# EAGLE library part 734-510 (library con-wago_3.81mm)
Serie 734, Federleiste mit geraden Einlötstiften / Series 734, Female connector with straight solder pins Polzahl / Pole No.: 10 Bemessungsspannung / Rated Voltage: 160 V Nennstrom / Nominal Current: 10 A Lötstiftlänge: / Solder Pin Length: 3.8 mm Farbe / Color: orange / orange Stand: 01.01.2012. Die jeweils aktuellen Daten zu diesem Artikel finden Sie in unserem Produktkatalog, den Sie unter www.wago.com einsehen können. As of: 01/01/2012. Please find the newest data for this article in our product catalogue, which can be viewed under www.wago.com.
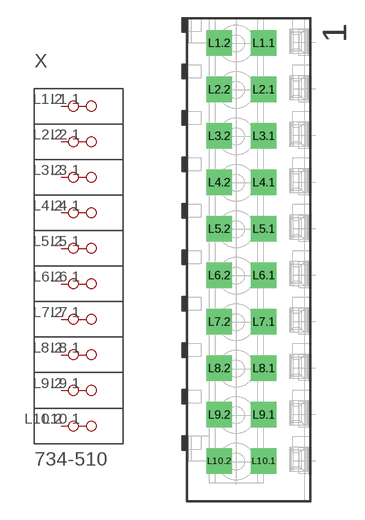
[diagram p43: symbol with the pads of P-734-510; footprint P-734-510]

Designator prefix X

## 734-510  [P-734-510]
L1.1  P1.1
L1.2  P1.2
L2.1  P2.1
L2.2  P2.2
L3.1  P3.1
L3.2  P3.2
L4.1  P4.1
L4.2  P4.2
L5.1  P5.1
L5.2  P5.2
L6.1  P6.1
L6.2  P6.2
L7.1  P7.1
L7.2  P7.2
L8.1  P8.1
L8.2  P8.2
L9.1  P9.1
L9.2  P9.2
L10.1  P10.1
L10.2  P10.2

## Footprint P-734-510 (pad centres in mm)
drill 1.4 square: L1.1 1.189,17.79; L1.2 -2.461,17.79; L2.1 1.189,13.98; L2.2 -2.461,13.98; L3.1 1.189,10.17; L3.2 -2.461,10.17; L4.1 1.189,6.36; L4.2 -2.461,6.36; L5.1 1.189,2.55; L5.2 -2.461,2.55; L6.1 1.189,-1.26; L6.2 -2.461,-1.26; L7.1 1.189,-5.07; L7.2 -2.461,-5.07; L8.1 1.189,-8.88; L8.2 -2.461,-8.88; L9.1 1.189,-12.69; L9.2 -2.461,-12.69; L10.1 1.189,-16.5; L10.2 -2.461,-16.5